# EAGLE library part ADF4355-3BCPZ (library My_Library_2)
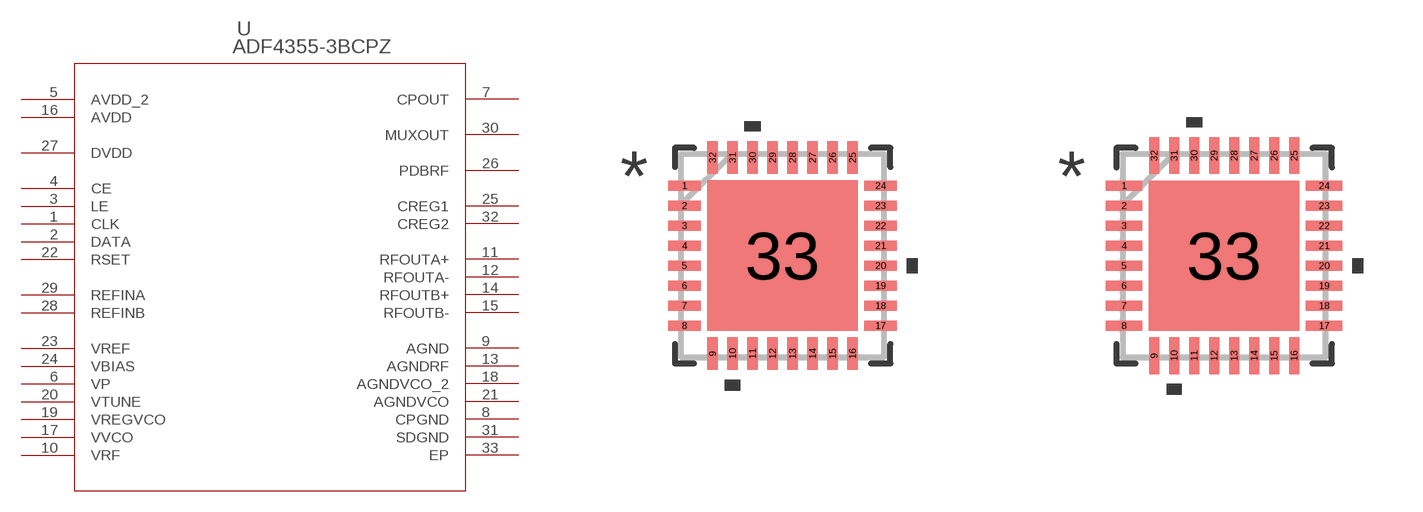
[diagram p10: symbol with the pads of CP_32_12_ADI; footprints CP_32_12_ADI, CP_32_12_ADI-M]

Designator prefix U

## ADF4355-3BCPZ (COPYRIGHT: Copyright (C) 2025 Ultra Librarian. All rights reserved.; MANUFACTURER_PART_NUMBER: ADF4355-3BCPZ; MFR_NAME: Analog Devices Inc)  [CP_32_12_ADI]
1  CLK  pas
2  DATA  pas
3  LE  pas
4  CE  pas
5  AVDD_2  pas
6  VP  pas
7  CPOUT  pas
8  CPGND  pas
9  AGND  pas
10  VRF  pas
11  RFOUTA+  pas
12  RFOUTA-  pas
13  AGNDRF  pas
14  RFOUTB+  pas
15  RFOUTB-  pas
16  AVDD  pas
17  VVCO  pas
18  AGNDVCO_2  pas
19  VREGVCO  pas
20  VTUNE  pas
21  AGNDVCO  pas
22  RSET  pas
23  VREF  pas
24  VBIAS  pas
25  CREG1  pas
26  PDBRF  pas
27  DVDD  pas
28  REFINB  pas
29  REFINA  pas
30  MUXOUT  pas
31  SDGND  pas
32  CREG2  pas
33  EP  pas

## ADF4355-3BCPZCP_32_12_ADI-M (COPYRIGHT: Copyright (C) 2025 Ultra Librarian. All rights reserved.; MANUFACTURER_PART_NUMBER: ADF4355-3BCPZ; MFR_NAME: Analog Devices Inc)  [CP_32_12_ADI-M]
Pads as for CP_32_12_ADI

## ADF4355-3BCPZCP_32_12_ADI-L (COPYRIGHT: Copyright (C) 2025 Ultra Librarian. All rights reserved.; MANUFACTURER_PART_NUMBER: ADF4355-3BCPZ; MFR_NAME: Analog Devices Inc)  [CP_32_12_ADI-L]
Pads as for CP_32_12_ADI

## Footprint CP_32_12_ADI (pad centres in mm)
smd 0.813 x 0.254: 1 -2.451,1.75; 2 -2.451,1.25; 3 -2.451,0.75; 4 -2.451,0.25; 5 -2.451,-0.25; 6 -2.451,-0.75; 7 -2.451,-1.25; 8 -2.451,-1.75; 17 2.451,-1.75; 18 2.451,-1.25; 19 2.451,-0.75; 20 2.451,-0.25; 21 2.451,0.25; 22 2.451,0.75; 23 2.451,1.25; 24 2.451,1.75
smd 0.254 x 0.813: 9 -1.75,-2.451; 10 -1.25,-2.451; 11 -0.75,-2.451; 12 -0.25,-2.451; 13 0.25,-2.451; 14 0.75,-2.451; 15 1.25,-2.451; 16 1.75,-2.451; 25 1.75,2.451; 26 1.25,2.451; 27 0.75,2.451; 28 0.25,2.451; 29 -0.25,2.451; 30 -0.75,2.451; 31 -1.25,2.451; 32 -1.75,2.451
smd 3.759 x 3.759: 33 0,0

## Footprint CP_32_12_ADI-M (pad centres in mm)
smd 0.914 x 0.254: 1 -2.502,1.75; 2 -2.502,1.25; 3 -2.502,0.75; 4 -2.502,0.25; 5 -2.502,-0.25; 6 -2.502,-0.75; 7 -2.502,-1.25; 8 -2.502,-1.75; 17 2.502,-1.75; 18 2.502,-1.25; 19 2.502,-0.75; 20 2.502,-0.25; 21 2.502,0.25; 22 2.502,0.75; 23 2.502,1.25; 24 2.502,1.75
smd 0.254 x 0.914: 9 -1.75,-2.502; 10 -1.25,-2.502; 11 -0.75,-2.502; 12 -0.25,-2.502; 13 0.25,-2.502; 14 0.75,-2.502; 15 1.25,-2.502; 16 1.75,-2.502; 25 1.75,2.502; 26 1.25,2.502; 27 0.75,2.502; 28 0.25,2.502; 29 -0.25,2.502; 30 -0.75,2.502; 31 -1.25,2.502; 32 -1.75,2.502
smd 3.759 x 3.759: 33 0,0

## Footprint CP_32_12_ADI-L (pad centres in mm)
smd 0.711 x 0.254: 1 -2.4,1.75; 2 -2.4,1.25; 3 -2.4,0.75; 4 -2.4,0.25; 5 -2.4,-0.25; 6 -2.4,-0.75; 7 -2.4,-1.25; 8 -2.4,-1.75; 17 2.4,-1.75; 18 2.4,-1.25; 19 2.4,-0.75; 20 2.4,-0.25; 21 2.4,0.25; 22 2.4,0.75; 23 2.4,1.25; 24 2.4,1.75
smd 0.254 x 0.711: 9 -1.75,-2.4; 10 -1.25,-2.4; 11 -0.75,-2.4; 12 -0.25,-2.4; 13 0.25,-2.4; 14 0.75,-2.4; 15 1.25,-2.4; 16 1.75,-2.4; 25 1.75,2.4; 26 1.25,2.4; 27 0.75,2.4; 28 0.25,2.4; 29 -0.25,2.4; 30 -0.75,2.4; 31 -1.25,2.4; 32 -1.75,2.4
smd 3.759 x 3.759: 33 0,0